# Altium footprint library Main Board.PcbLib: 23 footprints (part 2 of 2)
Each footprint in its own frame and in the unit in brackets; x right, y up, seen from the top. Pads: shape width x height; smd on the part's side, far side on the other; paste and mask are expansions set on the pad; w line width, h text height; cw(c..) or ccw(c..) is an arc to the next point about the centre after c.
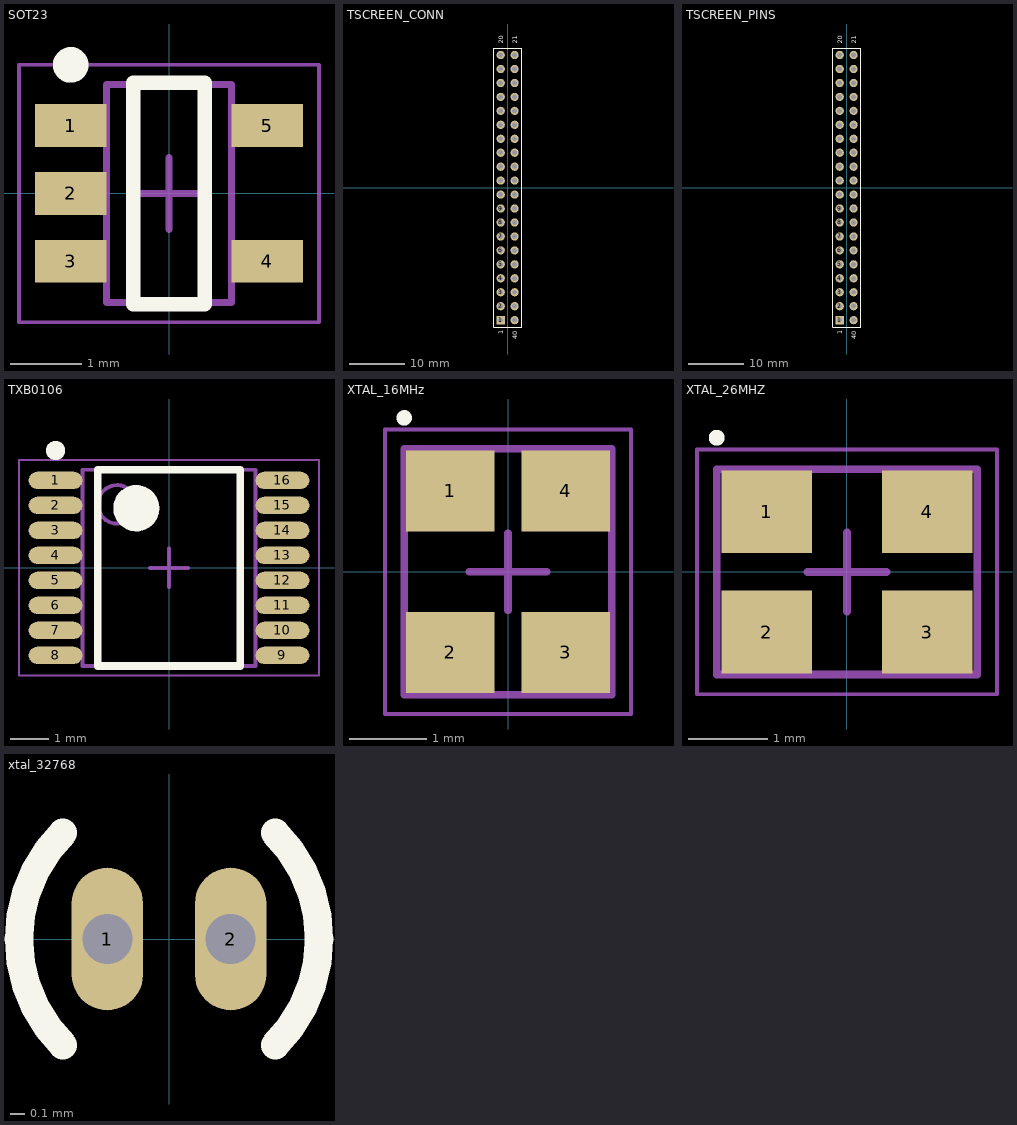
[diagram p1: the footprints below, top view; thin cyan lines are the x and y axes]

## SOT23 [mm] "SOT23, 5-Leads, Body 2,90x2,80mm, Pitch 0,95mm, IPC Medium Density"
height 1.45
pads (5):
  rect 1x0.6 smd: 1(-1.375,0.95) 2(-1.375,0) 3(-1.375,-0.95) 4(1.375,-0.95) 5(1.375,0.95)
Top Overlay:
  circle w0.25: c-1.375,1.8 r0.125
  lines w0.2: -0.5,-1.55 0.5,-1.55 0.5,1.55 -0.5,1.55 -0.5,-1.55
Mechanical 13:
  lines w0.1: -0.875,-1.525 -0.875,1.525 0.875,1.525 0.875,-1.525 -0.875,-1.525
Mechanical 15:
  lines w0.05: -2.1,-1.8 -2.1,1.8 2.1,1.8 2.1,-1.8 -2.1,-1.8
  lines w0.1: -0.5,0 0.5,0 ; 0,-0.5 0,0.5
3D body: height 1.45, standoff 0.1, extent -0.875,-1.525 0.875,1.525

## TSCREEN_CONN [mm]
height 8.5
pads (40):
  rect 1.5x1.5 hole 0.9: 1(-1.27,-24.13)
  round 1.5 hole 0.9: 2(-1.27,-21.59) 3(-1.27,-19.05) 4(-1.27,-16.51) 5(-1.27,-13.97) 6(-1.27,-11.43) 7(-1.27,-8.89) 8(-1.27,-6.35) 9(-1.27,-3.81) 10(-1.27,-1.27) 11(-1.27,1.27) 12(-1.27,3.81) 13(-1.27,6.35) 14(-1.27,8.89) 15(-1.27,11.43) 16(-1.27,13.97) 17(-1.27,16.51) 18(-1.27,19.05) 19(-1.27,21.59) 20(-1.27,24.13) 21(1.27,24.13) 22(1.27,21.59) 23(1.27,19.05) 24(1.27,16.51) 25(1.27,13.97) 26(1.27,11.43) 27(1.27,8.89) 28(1.27,6.35) 29(1.27,3.81) 30(1.27,1.27) 31(1.27,-1.27) 32(1.27,-3.81) 33(1.27,-6.35) 34(1.27,-8.89) 35(1.27,-11.43) 36(1.27,-13.97) 37(1.27,-16.51) 38(1.27,-19.05) 39(1.27,-21.59) 40(1.27,-24.13)
Top Overlay:
  lines w0.2: -2.54,-25.4 2.54,-25.4 2.54,25.4 -2.54,25.4 -2.54,-25.4
  text "21" at 1.778,26.162 h0.89
  text "20" at -0.762,26.162 h0.89
  text "1" at -0.762,-26.67 h0.89
  text "40" at 1.778,-27.559 h0.89
3D body: height 8.5, standoff 0.5, extent -2.54,22.86 2.54,25.4
3D body: height 0.5, standoff 0, extent -2.54,22.86 -1.905,25.4
3D body: height 0.5, standoff 0, extent 1.905,22.86 2.54,25.4
3D body: height 1, standoff 0.5, extent -1.905,23.495 -0.635,24.765
3D body: height 1, standoff 0.5, extent 0.635,23.495 1.905,24.765
3D body: height 0.5, standoff -3, extent -1.524,23.876 -1.016,24.384
3D body: height 0.5, standoff -3, extent 1.016,23.876 1.524,24.384
3D body: height 8.5, standoff 0.5, extent -2.54,20.32 2.54,22.86
3D body: height 0.5, standoff 0, extent -2.54,20.32 -1.905,22.86
3D body: height 0.5, standoff 0, extent 1.905,20.32 2.54,22.86
3D body: height 1, standoff 0.5, extent -1.905,20.955 -0.635,22.225
3D body: height 1, standoff 0.5, extent 0.635,20.955 1.905,22.225
3D body: height 0.5, standoff -3, extent -1.524,21.336 -1.016,21.844
3D body: height 0.5, standoff -3, extent 1.016,21.336 1.524,21.844
3D body: height 8.5, standoff 0.5, extent -2.54,17.78 2.54,20.32
3D body: height 0.5, standoff 0, extent -2.54,17.78 -1.905,20.32
3D body: height 0.5, standoff 0, extent 1.905,17.78 2.54,20.32
3D body: height 1, standoff 0.5, extent -1.905,18.415 -0.635,19.685
3D body: height 1, standoff 0.5, extent 0.635,18.415 1.905,19.685
3D body: height 0.5, standoff -3, extent -1.524,18.796 -1.016,19.304
3D body: height 0.5, standoff -3, extent 1.016,18.796 1.524,19.304
3D body: height 8.5, standoff 0.5, extent -2.54,15.24 2.54,17.78
3D body: height 0.5, standoff 0, extent -2.54,15.24 -1.905,17.78
3D body: height 0.5, standoff 0, extent 1.905,15.24 2.54,17.78
3D body: height 1, standoff 0.5, extent -1.905,15.875 -0.635,17.145
3D body: height 1, standoff 0.5, extent 0.635,15.875 1.905,17.145
3D body: height 0.5, standoff -3, extent -1.524,16.256 -1.016,16.764
3D body: height 0.5, standoff -3, extent 1.016,16.256 1.524,16.764
3D body: height 8.5, standoff 0.5, extent -2.54,12.7 2.54,15.24
3D body: height 0.5, standoff 0, extent -2.54,12.7 -1.905,15.24
3D body: height 0.5, standoff 0, extent 1.905,12.7 2.54,15.24
3D body: height 1, standoff 0.5, extent -1.905,13.335 -0.635,14.605
3D body: height 1, standoff 0.5, extent 0.635,13.335 1.905,14.605
3D body: height 0.5, standoff -3, extent -1.524,13.716 -1.016,14.224
3D body: height 0.5, standoff -3, extent 1.016,13.716 1.524,14.224
3D body: height 8.5, standoff 0.5, extent -2.54,10.16 2.54,12.7
3D body: height 0.5, standoff 0, extent -2.54,10.16 -1.905,12.7
3D body: height 0.5, standoff 0, extent 1.905,10.16 2.54,12.7
3D body: height 1, standoff 0.5, extent -1.905,10.795 -0.635,12.065
3D body: height 1, standoff 0.5, extent 0.635,10.795 1.905,12.065
3D body: height 0.5, standoff -3, extent -1.524,11.176 -1.016,11.684
3D body: height 0.5, standoff -3, extent 1.016,11.176 1.524,11.684
3D body: height 8.5, standoff 0.5, extent -2.54,7.62 2.54,10.16
3D body: height 0.5, standoff 0, extent -2.54,7.62 -1.905,10.16
3D body: height 0.5, standoff 0, extent 1.905,7.62 2.54,10.16
3D body: height 1, standoff 0.5, extent -1.905,8.255 -0.635,9.525
3D body: height 1, standoff 0.5, extent 0.635,8.255 1.905,9.525
3D body: height 0.5, standoff -3, extent -1.524,8.636 -1.016,9.144
3D body: height 0.5, standoff -3, extent 1.016,8.636 1.524,9.144
3D body: height 8.5, standoff 0.5, extent -2.54,5.08 2.54,7.62
3D body: height 0.5, standoff 0, extent -2.54,5.08 -1.905,7.62
3D body: height 0.5, standoff 0, extent 1.905,5.08 2.54,7.62
3D body: height 1, standoff 0.5, extent -1.905,5.715 -0.635,6.985
3D body: height 1, standoff 0.5, extent 0.635,5.715 1.905,6.985
3D body: height 0.5, standoff -3, extent -1.524,6.096 -1.016,6.604
3D body: height 0.5, standoff -3, extent 1.016,6.096 1.524,6.604
3D body: height 8.5, standoff 0.5, extent -2.54,2.54 2.54,5.08
3D body: height 0.5, standoff 0, extent -2.54,2.54 -1.905,5.08
3D body: height 0.5, standoff 0, extent 1.905,2.54 2.54,5.08
3D body: height 1, standoff 0.5, extent -1.905,3.175 -0.635,4.445
3D body: height 1, standoff 0.5, extent 0.635,3.175 1.905,4.445
3D body: height 0.5, standoff -3, extent -1.524,3.556 -1.016,4.064
3D body: height 0.5, standoff -3, extent 1.016,3.556 1.524,4.064
3D body: height 8.5, standoff 0.5, extent -2.54,0 2.54,2.54
3D body: height 0.5, standoff 0, extent -2.54,0 -1.905,2.54
3D body: height 0.5, standoff 0, extent 1.905,0 2.54,2.54
3D body: height 1, standoff 0.5, extent -1.905,0.635 -0.635,1.905
3D body: height 1, standoff 0.5, extent 0.635,0.635 1.905,1.905
3D body: height 0.5, standoff -3, extent -1.524,1.016 -1.016,1.524
3D body: height 0.5, standoff -3, extent 1.016,1.016 1.524,1.524
3D body: height 8.5, standoff 0.5, extent -2.54,-2.54 2.54,0
3D body: height 0.5, standoff 0, extent -2.54,-2.54 -1.905,0
3D body: height 0.5, standoff 0, extent 1.905,-2.54 2.54,0
3D body: height 1, standoff 0.5, extent -1.905,-1.905 -0.635,-0.635
3D body: height 1, standoff 0.5, extent 0.635,-1.905 1.905,-0.635
3D body: height 0.5, standoff -3, extent -1.524,-1.524 -1.016,-1.016
3D body: height 0.5, standoff -3, extent 1.016,-1.524 1.524,-1.016
3D body: height 8.5, standoff 0.5, extent -2.54,-5.08 2.54,-2.54
3D body: height 0.5, standoff 0, extent -2.54,-5.08 -1.905,-2.54
3D body: height 0.5, standoff 0, extent 1.905,-5.08 2.54,-2.54
3D body: height 1, standoff 0.5, extent -1.905,-4.445 -0.635,-3.175
3D body: height 1, standoff 0.5, extent 0.635,-4.445 1.905,-3.175
3D body: height 0.5, standoff -3, extent -1.524,-4.064 -1.016,-3.556
3D body: height 0.5, standoff -3, extent 1.016,-4.064 1.524,-3.556
3D body: height 8.5, standoff 0.5, extent -2.54,-7.62 2.54,-5.08
3D body: height 0.5, standoff 0, extent -2.54,-7.62 -1.905,-5.08
3D body: height 0.5, standoff 0, extent 1.905,-7.62 2.54,-5.08
3D body: height 1, standoff 0.5, extent -1.905,-6.985 -0.635,-5.715
3D body: height 1, standoff 0.5, extent 0.635,-6.985 1.905,-5.715
3D body: height 0.5, standoff -3, extent -1.524,-6.604 -1.016,-6.096
3D body: height 0.5, standoff -3, extent 1.016,-6.604 1.524,-6.096
3D body: height 8.5, standoff 0.5, extent -2.54,-10.16 2.54,-7.62
3D body: height 0.5, standoff 0, extent -2.54,-10.16 -1.905,-7.62
3D body: height 0.5, standoff 0, extent 1.905,-10.16 2.54,-7.62
3D body: height 1, standoff 0.5, extent -1.905,-9.525 -0.635,-8.255
3D body: height 1, standoff 0.5, extent 0.635,-9.525 1.905,-8.255
3D body: height 0.5, standoff -3, extent -1.524,-9.144 -1.016,-8.636
3D body: height 0.5, standoff -3, extent 1.016,-9.144 1.524,-8.636
3D body: height 8.5, standoff 0.5, extent -2.54,-12.7 2.54,-10.16
3D body: height 0.5, standoff 0, extent -2.54,-12.7 -1.905,-10.16
3D body: height 0.5, standoff 0, extent 1.905,-12.7 2.54,-10.16
3D body: height 1, standoff 0.5, extent -1.905,-12.065 -0.635,-10.795
3D body: height 1, standoff 0.5, extent 0.635,-12.065 1.905,-10.795
3D body: height 0.5, standoff -3, extent -1.524,-11.684 -1.016,-11.176
3D body: height 0.5, standoff -3, extent 1.016,-11.684 1.524,-11.176
3D body: height 8.5, standoff 0.5, extent -2.54,-15.24 2.54,-12.7
3D body: height 0.5, standoff 0, extent -2.54,-15.24 -1.905,-12.7
3D body: height 0.5, standoff 0, extent 1.905,-15.24 2.54,-12.7
3D body: height 1, standoff 0.5, extent -1.905,-14.605 -0.635,-13.335
3D body: height 1, standoff 0.5, extent 0.635,-14.605 1.905,-13.335
3D body: height 0.5, standoff -3, extent -1.524,-14.224 -1.016,-13.716
3D body: height 0.5, standoff -3, extent 1.016,-14.224 1.524,-13.716
3D body: height 8.5, standoff 0.5, extent -2.54,-17.78 2.54,-15.24
3D body: height 0.5, standoff 0, extent -2.54,-17.78 -1.905,-15.24
3D body: height 0.5, standoff 0, extent 1.905,-17.78 2.54,-15.24
3D body: height 1, standoff 0.5, extent -1.905,-17.145 -0.635,-15.875
3D body: height 1, standoff 0.5, extent 0.635,-17.145 1.905,-15.875
3D body: height 0.5, standoff -3, extent -1.524,-16.764 -1.016,-16.256
3D body: height 0.5, standoff -3, extent 1.016,-16.764 1.524,-16.256
3D body: height 8.5, standoff 0.5, extent -2.54,-20.32 2.54,-17.78
3D body: height 0.5, standoff 0, extent -2.54,-20.32 -1.905,-17.78
3D body: height 0.5, standoff 0, extent 1.905,-20.32 2.54,-17.78
3D body: height 1, standoff 0.5, extent -1.905,-19.685 -0.635,-18.415
3D body: height 1, standoff 0.5, extent 0.635,-19.685 1.905,-18.415
3D body: height 0.5, standoff -3, extent -1.524,-19.304 -1.016,-18.796
3D body: height 0.5, standoff -3, extent 1.016,-19.304 1.524,-18.796
3D body: height 8.5, standoff 0.5, extent -2.54,-22.86 2.54,-20.32
3D body: height 0.5, standoff 0, extent -2.54,-22.86 -1.905,-20.32
3D body: height 0.5, standoff 0, extent 1.905,-22.86 2.54,-20.32
3D body: height 1, standoff 0.5, extent -1.905,-22.225 -0.635,-20.955
3D body: height 1, standoff 0.5, extent 0.635,-22.225 1.905,-20.955
3D body: height 0.5, standoff -3, extent -1.524,-21.844 -1.016,-21.336
3D body: height 0.5, standoff -3, extent 1.016,-21.844 1.524,-21.336
3D body: height 0.5, standoff -3, extent 1.016,-24.384 1.524,-23.876
3D body: height 0.5, standoff -3, extent -1.524,-24.384 -1.016,-23.876
3D body: height 1, standoff 0.5, extent 0.635,-24.765 1.905,-23.495
3D body: height 1, standoff 0.5, extent -1.905,-24.765 -0.635,-23.495
3D body: height 0.5, standoff 0, extent 1.905,-25.4 2.54,-22.86
3D body: height 0.5, standoff 0, extent -2.54,-25.4 -1.905,-22.86
3D body: height 8.5, standoff 0.5, extent -2.54,-25.4 2.54,-22.86

## TSCREEN_PINS [mm]
pads (40):
  rect 1.5x1.5 hole 0.9: 1(-1.27,-24.13)
  round 1.5 hole 0.9: 2(-1.27,-21.59) 3(-1.27,-19.05) 4(-1.27,-16.51) 5(-1.27,-13.97) 6(-1.27,-11.43) 7(-1.27,-8.89) 8(-1.27,-6.35) 9(-1.27,-3.81) 10(-1.27,-1.27) 11(-1.27,1.27) 12(-1.27,3.81) 13(-1.27,6.35) 14(-1.27,8.89) 15(-1.27,11.43) 16(-1.27,13.97) 17(-1.27,16.51) 18(-1.27,19.05) 19(-1.27,21.59) 20(-1.27,24.13) 21(1.27,24.13) 22(1.27,21.59) 23(1.27,19.05) 24(1.27,16.51) 25(1.27,13.97) 26(1.27,11.43) 27(1.27,8.89) 28(1.27,6.35) 29(1.27,3.81) 30(1.27,1.27) 31(1.27,-1.27) 32(1.27,-3.81) 33(1.27,-6.35) 34(1.27,-8.89) 35(1.27,-11.43) 36(1.27,-13.97) 37(1.27,-16.51) 38(1.27,-19.05) 39(1.27,-21.59) 40(1.27,-24.13)
Top Overlay:
  lines w0.2: -2.54,-25.4 2.54,-25.4 2.54,25.4 -2.54,25.4 -2.54,-25.4
  text "21" at 1.778,26.162 h0.89
  text "20" at -0.762,26.162 h0.89
  text "1" at -0.762,-26.67 h0.89
  text "40" at 1.778,-27.559 h0.89
3D body: height -2.11, standoff -4.14, extent -2.54,-25.4 2.54,-22.86
3D body: height -1.6, standoff -2.11, extent 1.905,-25.4 2.54,-22.86
3D body: height -1.6, standoff -2.11, extent -2.54,-25.4 -1.905,-22.86
3D body: height 1.4, standoff -10.16, extent 1.016,-24.384 1.524,-23.876
3D body: height 1.4, standoff -10.16, extent -1.524,-24.384 -1.016,-23.876
3D body: height 1.4, standoff -10.16, extent -1.524,-21.844 -1.016,-21.336
3D body: height 1.4, standoff -10.16, extent 1.016,-21.844 1.524,-21.336
3D body: height -1.6, standoff -2.11, extent -2.54,-22.86 -1.905,-20.32
3D body: height -1.6, standoff -2.11, extent 1.905,-22.86 2.54,-20.32
3D body: height -2.11, standoff -4.14, extent -2.54,-22.86 2.54,-20.32
3D body: height 1.4, standoff -10.16, extent -1.524,-19.304 -1.016,-18.796
3D body: height 1.4, standoff -10.16, extent 1.016,-19.304 1.524,-18.796
3D body: height -1.6, standoff -2.11, extent -2.54,-20.32 -1.905,-17.78
3D body: height -1.6, standoff -2.11, extent 1.905,-20.32 2.54,-17.78
3D body: height -2.11, standoff -4.14, extent -2.54,-20.32 2.54,-17.78
3D body: height 1.4, standoff -10.16, extent -1.524,-16.764 -1.016,-16.256
3D body: height 1.4, standoff -10.16, extent 1.016,-16.764 1.524,-16.256
3D body: height -1.6, standoff -2.11, extent -2.54,-17.78 -1.905,-15.24
3D body: height -1.6, standoff -2.11, extent 1.905,-17.78 2.54,-15.24
3D body: height -2.11, standoff -4.14, extent -2.54,-17.78 2.54,-15.24
3D body: height 1.4, standoff -10.16, extent -1.524,-14.224 -1.016,-13.716
3D body: height 1.4, standoff -10.16, extent 1.016,-14.224 1.524,-13.716
3D body: height -1.6, standoff -2.11, extent -2.54,-15.24 -1.905,-12.7
3D body: height -1.6, standoff -2.11, extent 1.905,-15.24 2.54,-12.7
3D body: height -2.11, standoff -4.14, extent -2.54,-15.24 2.54,-12.7
3D body: height 1.4, standoff -10.16, extent -1.524,-11.684 -1.016,-11.176
3D body: height 1.4, standoff -10.16, extent 1.016,-11.684 1.524,-11.176
3D body: height -1.6, standoff -2.11, extent -2.54,-12.7 -1.905,-10.16
3D body: height -1.6, standoff -2.11, extent 1.905,-12.7 2.54,-10.16
3D body: height -2.11, standoff -4.14, extent -2.54,-12.7 2.54,-10.16
3D body: height 1.4, standoff -10.16, extent -1.524,-9.144 -1.016,-8.636
3D body: height 1.4, standoff -10.16, extent 1.016,-9.144 1.524,-8.636
3D body: height -1.6, standoff -2.11, extent -2.54,-10.16 -1.905,-7.62
3D body: height -1.6, standoff -2.11, extent 1.905,-10.16 2.54,-7.62
3D body: height -2.11, standoff -4.14, extent -2.54,-10.16 2.54,-7.62
3D body: height 1.4, standoff -10.16, extent -1.524,-6.604 -1.016,-6.096
3D body: height 1.4, standoff -10.16, extent 1.016,-6.604 1.524,-6.096
3D body: height -1.6, standoff -2.11, extent -2.54,-7.62 -1.905,-5.08
3D body: height -1.6, standoff -2.11, extent 1.905,-7.62 2.54,-5.08
3D body: height -2.11, standoff -4.14, extent -2.54,-7.62 2.54,-5.08
3D body: height 1.4, standoff -10.16, extent -1.524,-4.064 -1.016,-3.556
3D body: height 1.4, standoff -10.16, extent 1.016,-4.064 1.524,-3.556
3D body: height -1.6, standoff -2.11, extent -2.54,-5.08 -1.905,-2.54
3D body: height -1.6, standoff -2.11, extent 1.905,-5.08 2.54,-2.54
3D body: height -2.11, standoff -4.14, extent -2.54,-5.08 2.54,-2.54
3D body: height 1.4, standoff -10.16, extent -1.524,-1.524 -1.016,-1.016
3D body: height 1.4, standoff -10.16, extent 1.016,-1.524 1.524,-1.016
3D body: height -1.6, standoff -2.11, extent -2.54,-2.54 -1.905,0
3D body: height -1.6, standoff -2.11, extent 1.905,-2.54 2.54,0
3D body: height -2.11, standoff -4.14, extent -2.54,-2.54 2.54,0
3D body: height 1.4, standoff -10.16, extent -1.524,1.016 -1.016,1.524
3D body: height 1.4, standoff -10.16, extent 1.016,1.016 1.524,1.524
3D body: height -1.6, standoff -2.11, extent -2.54,0 -1.905,2.54
3D body: height -1.6, standoff -2.11, extent 1.905,0 2.54,2.54
3D body: height -2.11, standoff -4.14, extent -2.54,0 2.54,2.54
3D body: height 1.4, standoff -10.16, extent -1.524,3.556 -1.016,4.064
3D body: height 1.4, standoff -10.16, extent 1.016,3.556 1.524,4.064
3D body: height -1.6, standoff -2.11, extent -2.54,2.54 -1.905,5.08
3D body: height -1.6, standoff -2.11, extent 1.905,2.54 2.54,5.08
3D body: height -2.11, standoff -4.14, extent -2.54,2.54 2.54,5.08
3D body: height 1.4, standoff -10.16, extent -1.524,6.096 -1.016,6.604
3D body: height 1.4, standoff -10.16, extent 1.016,6.096 1.524,6.604
3D body: height -1.6, standoff -2.11, extent -2.54,5.08 -1.905,7.62
3D body: height -1.6, standoff -2.11, extent 1.905,5.08 2.54,7.62
3D body: height -2.11, standoff -4.14, extent -2.54,5.08 2.54,7.62
3D body: height 1.4, standoff -10.16, extent -1.524,8.636 -1.016,9.144
3D body: height 1.4, standoff -10.16, extent 1.016,8.636 1.524,9.144
3D body: height -1.6, standoff -2.11, extent -2.54,7.62 -1.905,10.16
3D body: height -1.6, standoff -2.11, extent 1.905,7.62 2.54,10.16
3D body: height -2.11, standoff -4.14, extent -2.54,7.62 2.54,10.16
3D body: height 1.4, standoff -10.16, extent -1.524,11.176 -1.016,11.684
3D body: height 1.4, standoff -10.16, extent 1.016,11.176 1.524,11.684
3D body: height -1.6, standoff -2.11, extent -2.54,10.16 -1.905,12.7
3D body: height -1.6, standoff -2.11, extent 1.905,10.16 2.54,12.7
3D body: height -2.11, standoff -4.14, extent -2.54,10.16 2.54,12.7
3D body: height 1.4, standoff -10.16, extent -1.524,13.716 -1.016,14.224
3D body: height 1.4, standoff -10.16, extent 1.016,13.716 1.524,14.224
3D body: height -1.6, standoff -2.11, extent -2.54,12.7 -1.905,15.24
3D body: height -1.6, standoff -2.11, extent 1.905,12.7 2.54,15.24
3D body: height -2.11, standoff -4.14, extent -2.54,12.7 2.54,15.24
3D body: height 1.4, standoff -10.16, extent -1.524,16.256 -1.016,16.764
3D body: height 1.4, standoff -10.16, extent 1.016,16.256 1.524,16.764
3D body: height -1.6, standoff -2.11, extent -2.54,15.24 -1.905,17.78
3D body: height -1.6, standoff -2.11, extent 1.905,15.24 2.54,17.78
3D body: height -2.11, standoff -4.14, extent -2.54,15.24 2.54,17.78
3D body: height 1.4, standoff -10.16, extent -1.524,18.796 -1.016,19.304
3D body: height 1.4, standoff -10.16, extent 1.016,18.796 1.524,19.304
3D body: height -1.6, standoff -2.11, extent -2.54,17.78 -1.905,20.32
3D body: height -1.6, standoff -2.11, extent 1.905,17.78 2.54,20.32
3D body: height -2.11, standoff -4.14, extent -2.54,17.78 2.54,20.32
3D body: height 1.4, standoff -10.16, extent -1.524,21.336 -1.016,21.844
3D body: height 1.4, standoff -10.16, extent 1.016,21.336 1.524,21.844
3D body: height -1.6, standoff -2.11, extent -2.54,20.32 -1.905,22.86
3D body: height -1.6, standoff -2.11, extent 1.905,20.32 2.54,22.86
3D body: height -2.11, standoff -4.14, extent -2.54,20.32 2.54,22.86
3D body: height 1.4, standoff -10.16, extent -1.524,23.876 -1.016,24.384
3D body: height 1.4, standoff -10.16, extent 1.016,23.876 1.524,24.384
3D body: height -1.6, standoff -2.11, extent -2.54,22.86 -1.905,25.4
3D body: height -1.6, standoff -2.11, extent 1.905,22.86 2.54,25.4
3D body: height -2.11, standoff -4.14, extent -2.54,22.86 2.54,25.4

## TXB0106 [mm] "TSOP, 16-Leads, Body 5,00x4,40mm, Pitch 0,65mm, IPC Medium Density"
height 1.2
pads (16):
  oval 1.4x0.45 smd: 1(-2.95,2.275) 2(-2.95,1.625) 3(-2.95,0.975) 4(-2.95,0.325) 5(-2.95,-0.325) 6(-2.95,-0.975) 7(-2.95,-1.625) 8(-2.95,-2.275) 9(2.95,-2.275) 10(2.95,-1.625) 11(2.95,-0.975) 12(2.95,-0.325) 13(2.95,0.325) 14(2.95,0.975) 15(2.95,1.625) 16(2.95,2.275)
Top Overlay:
  circle w0.6: c-0.85,1.55 r0.3
  circle w0.25: c-2.95,3.05 r0.125
  lines w0.2: -1.85,-2.55 1.85,-2.55 1.85,2.55 -1.85,2.55 -1.85,-2.55
Mechanical 13:
  circle w0.1: c-1.35,1.65 r0.5
  lines w0.1: -2.25,-2.55 2.25,-2.55 2.25,2.55 -2.25,2.55 -2.25,-2.55
Mechanical 15:
  lines w0.05: -3.9,-2.8 3.9,-2.8 3.9,2.8 -3.9,2.8 -3.9,-2.8
  lines w0.1: -0.5,0 0.5,0 ; 0,-0.5 0,0.5
3D body: height 1.2, standoff 0.05, extent -2.25,-2.55 2.25,2.55

## XTAL_16MHz [mm] "DFN, 4-Leads, Body 3,10x2,50mm, Pitch 1,50mm, IPC Medium Density"
height 0.75
pads (4):
  rect 1.15x1.05 smd: 1(-0.75,1.05) 2(-0.75,-1.05) 3(0.75,-1.05) 4(0.75,1.05)
Top Overlay:
  circle w0.1: c-1.35,2 r0.05
Mechanical 13:
  lines w0.1: -1.35,-1.6 -1.35,1.6 1.35,1.6 1.35,-1.6 -1.35,-1.6
Mechanical 15:
  lines w0.05: -1.6,-1.85 -1.6,1.85 1.6,1.85 1.6,-1.85 -1.6,-1.85
  lines w0.1: -0.5,0 0.5,0 ; 0,-0.5 0,0.5
3D body: height 0.75, standoff 0, extent -1.35,-1.6 1.35,1.6

## XTAL_26MHZ [mm] "DFN, 4-Leads, Body 2,50x3,20mm, Pitch 2,20mm, IPC Medium Density"
height 0.9
pads (4):
  rect 1.15x1.05 smd: 1(-1.016,0.762) 2(-1.016,-0.762) 3(1.016,-0.762) 4(1.016,0.762)
Top Overlay:
  circle w0.1: c-1.65,1.7 r0.05
Mechanical 13:
  lines w0.1: -1.65,-1.3 1.65,-1.3 1.65,1.3 -1.65,1.3 -1.65,-1.3
Mechanical 15:
  lines w0.05: -1.9,-1.55 1.9,-1.55 1.9,1.55 -1.9,1.55 -1.9,-1.55
  lines w0.1: -0.5,0 0.5,0 ; 0,-0.5 0,0.5
3D body: height 0.9, standoff 0, extent -1.65,-1.3 1.65,1.3

## xtal_32768 [mm]
pads (2):
  oval 0.5x1 hole 0.35: 1(-0.432,0) 2(0.432,0)
Top Overlay:
  lines w0.2: -0.742,-0.742 cw(c0,0) -0.742,0.742 ; 0.742,-0.742 ccw(c0,0) 0.742,0.742
3D body: height 6.2, standoff 0.5, extent -1.05,-1.047 1.05,1.047
3D body: height 1.9, standoff -1.6, extent -0.561,-0.13 -0.302,0.13
3D body: height 1.9, standoff -1.6, extent 0.303,-0.13 0.562,0.13